# EAGLE library part DMB-4772 (library FSAE Electric (Alexander Ray's conflicted copy 2016-04-02))
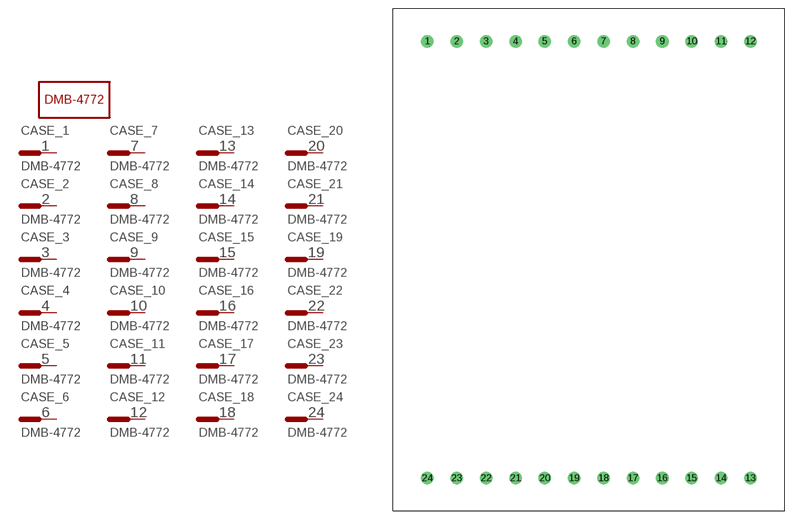
[diagram p67: symbol with the pads of DMB-4772-A; footprint DMB-4772-A]

Designator prefix CASE; gates G$1=DMB-4772 _1=PIN _2=PIN _3=PIN _4=PIN _5=PIN _6=PIN _19=PIN _7=PIN _8=PIN _9=PIN _10=PIN _11=PIN _12=PIN _20=PIN _13=PIN _14=PIN _15=PIN _16=PIN _17=PIN _18=PIN _21=PIN _22=PIN _23=PIN _24=PIN

## DMB-4772_A (PARTNO: DMB-4772)  [DMB-4772-A]
1  _1:1
2  _2:1
3  _3:1
4  _4:1
5  _5:1
6  _6:1
7  _7:1
8  _8:1
9  _9:1
10  _10:1
11  _11:1
12  _12:1
13  _13:1
14  _14:1
15  _15:1
16  _16:1
17  _17:1
18  _18:1
19  _19:1
20  _20:1
21  _21:1
22  _22:1
23  _23:1
24  _24:1

## Footprint DMB-4772-A (pad centres in mm)
drill 1.45: 1 -27.94,37.8; 2 -22.86,37.8; 3 -17.78,37.8; 4 -12.7,37.8; 5 -7.62,37.8; 6 -2.54,37.8; 7 2.54,37.8; 8 7.62,37.8; 9 12.7,37.8; 10 17.78,37.8; 11 22.86,37.8; 12 27.94,37.8; 13 27.94,-37.8; 14 22.86,-37.8; 15 17.78,-37.8; 16 12.7,-37.8; 17 7.62,-37.8; 18 2.54,-37.8; 19 -2.54,-37.8; 20 -7.62,-37.8; 21 -12.7,-37.8; 22 -17.78,-37.8; 23 -22.86,-37.8; 24 -27.94,-37.8